# EAGLE library part AD8250ARMZ (library parts)
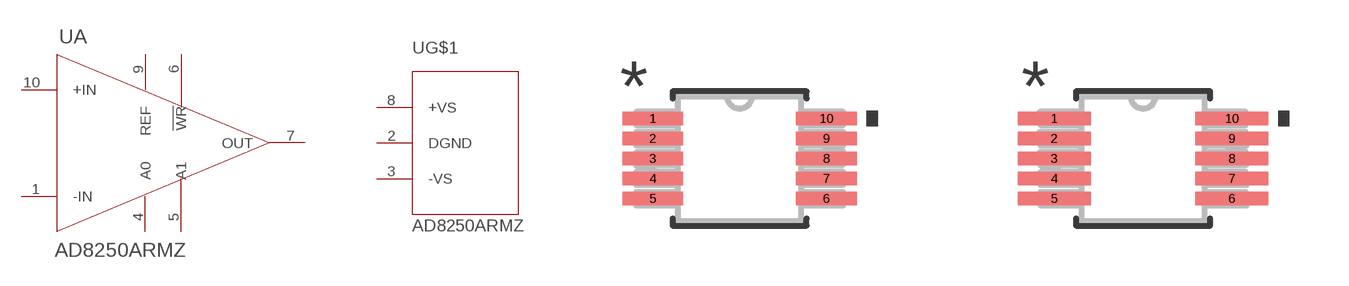
[diagram p14: symbol with the pads of RM_10_ADI; footprints RM_10_ADI, RM_10_ADI-M]

Designator prefix U; gates A=AD8250ARMZ G$1=POWER_SUPPLY

## AD8250ARMZ (BUILT_BY: EMA_UL_Team; MANUFACTURER_PART_NUMBER: AD8250ARMZ; SOURCELIBRARY: Analog_2015-12-15; VENDOR: Analog Devices Inc)  [RM_10_ADI]
1  A:-IN  pas
2  G$1:DGND
3  G$1:-VS
4  A:A0  pas
5  A:A1  pas
6  A:!WR  pas
7  A:OUT  pas
8  G$1:+VS
9  A:REF  pas
10  A:+IN  pas

## AD8250ARMZRM_10_ADI-M (BUILT_BY: EMA_UL_Team; MANUFACTURER_PART_NUMBER: AD8250ARMZ; SOURCELIBRARY: Analog_2015-12-15; VENDOR: Analog Devices Inc)  [RM_10_ADI-M]
Pads as for RM_10_ADI

## AD8250ARMZRM_10_ADI-L (BUILT_BY: EMA_UL_Team; MANUFACTURER_PART_NUMBER: AD8250ARMZ; SOURCELIBRARY: Analog_2015-12-15; VENDOR: Analog Devices Inc)  [RM_10_ADI-L]
Pads as for RM_10_ADI

## Footprint RM_10_ADI (pad centres in mm)
smd 1.524 x 0.33: 1 -2.172,1; 2 -2.172,0.5; 3 -2.172,0; 4 -2.172,-0.5; 5 -2.172,-1; 6 2.172,-1; 7 2.172,-0.5; 8 2.172,0; 9 2.172,0.5; 10 2.172,1

## Footprint RM_10_ADI-M (pad centres in mm)
smd 1.829 x 0.33: 1 -2.223,1; 2 -2.223,0.5; 3 -2.223,0; 4 -2.223,-0.5; 5 -2.223,-1; 6 2.223,-1; 7 2.223,-0.5; 8 2.223,0; 9 2.223,0.5; 10 2.223,1

## Footprint RM_10_ADI-L (pad centres in mm)
smd 1.219 x 0.279: 1 -2.121,1; 2 -2.121,0.5; 3 -2.121,0; 4 -2.121,-0.5; 5 -2.121,-1; 6 2.121,-1; 7 2.121,-0.5; 8 2.121,0; 9 2.121,0.5; 10 2.121,1